# EAGLE library part AAT3693 (library skyworks)
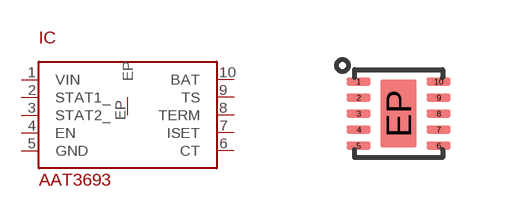
[diagram p0: symbol with the pads of AAT3693; footprint AAT3693]

Designator prefix IC

## AAT3693  [AAT3693]
1  VIN
2  STAT1_
3  STAT2_
4  EN
5  GND
6  CT
7  ISET
8  TERM
9  TS
10  BAT
EP  EP

## Footprint AAT3693 (pad centres in mm)
smd 0.6 x 0.2: 1 -1,0.8; 2 -1,0.4; 3 -1,0; 4 -1,-0.4; 5 -1,-0.8; 6 1,-0.8; 7 1,-0.4; 8 1,0; 9 1,0.4; 10 1,0.8
smd 0.9 x 1.7: EP 0,0